# Altium footprint library 无刷驱动-CYT2BL3-FD6288-FOC-LiteDual.PcbLib: 21 footprints (part 1 of 2)
Each footprint in its own frame and in the unit in brackets; x right, y up, seen from the top. Pads: shape width x height; smd on the part's side, far side on the other; paste and mask are expansions set on the pad; w line width, h text height; cw(c..) or ccw(c..) is an arc to the next point about the centre after c.
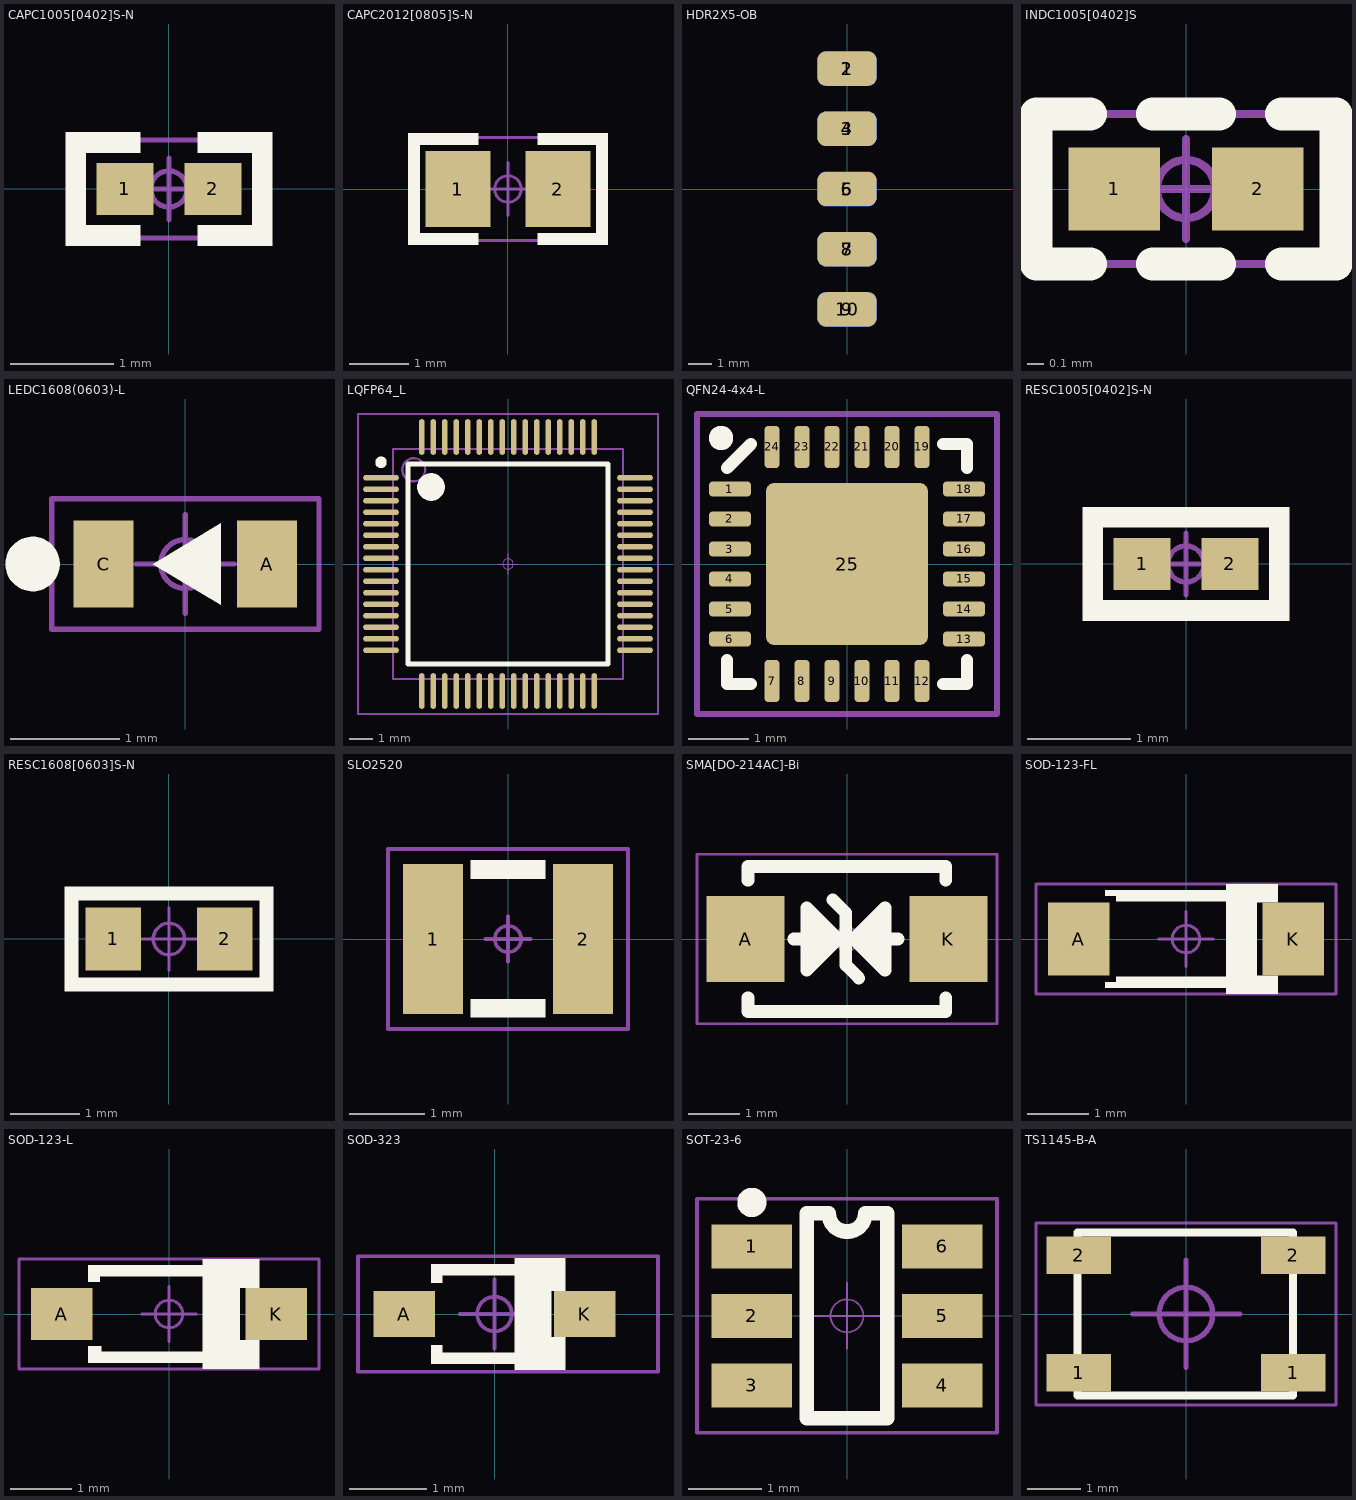
[diagram p0: the footprints below, top view; thin cyan lines are the x and y axes]

## CAPC1005[0402]S-N [mm] "0402贴片电容 有丝印 2脚 1.00x0.50mm IPC中密度"
height 0.6
pads (2):
  rect 0.55x0.5 smd: 1(-0.425,0) 2(0.425,0)
Top Overlay:
  region: 1,0.55 0.275,0.55 0.275,0.35 1,0.35
  region: 1.001,-0.55 1.001,0.55 0.801,0.55 0.801,-0.55
  region: 1,-0.35 0.275,-0.35 0.275,-0.55 1,-0.55
  rectangle: -1,-0.55 -0.275,-0.35
  region: -0.999,0.55 -0.999,-0.55 -0.799,-0.55 -0.799,0.55
  rectangle: -1,0.35 -0.275,0.55
Top Designator:
  text ".Designator" at -1.961,-0.196 h1
Top Component Outline:
  region: -0.95,-0.45 -0.95,-0.5 0.95,-0.5 0.95,-0.45
  region: 0.95,0.5 0.9,0.5 0.9,-0.5 0.95,-0.5
  region: 0.95,0.45 0.95,0.5 -0.95,0.5 -0.95,0.45
  rectangle: -0.95,-0.5 -0.9,0.5
Top Component Center:
  circle w0.05: c0,0 r0.175
  lines w0.05: -0.3,0 0.3,0 ; 0,-0.3 0,0.3
3D body "Capacitor 0402.SLDPRT": height 0.5, standoff 0, extent -0.5,-0.25 0.5,0.25

## CAPC2012[0805]S-N [mm] "0805贴片电容 有丝印 2脚 2.00x1.20mm IPC中密度"
height 1.1
pads (2):
  rect 1.1x1.3 smd: 1(-0.85,0) 2(0.85,0)
Top Overlay:
  region: 1.7,0.95 0.5,0.95 0.5,0.75 1.7,0.75
  region: 1.7,-0.95 1.7,0.95 1.5,0.95 1.5,-0.95
  region: 1.7,-0.75 0.5,-0.75 0.5,-0.95 1.7,-0.95
  rectangle: -1.7,-0.95 -0.5,-0.75
  region: -1.7,0.95 -1.7,-0.95 -1.5,-0.95 -1.5,0.95
  rectangle: -1.7,0.75 -0.5,0.95
Top Designator:
  text ".Designator" at -2.25,-0.226 h1
Top Component Outline:
  rectangle: -1.65,-0.9 -1.6,0.9
  region: 1.65,0.85 1.65,0.9 -1.65,0.9 -1.65,0.85
  region: 1.65,0.875 1.6,0.875 1.6,-0.9 1.65,-0.9
  region: -1.65,-0.85 -1.65,-0.9 1.65,-0.9 1.65,-0.85
Top Component Center:
  circle w0.05: c0,0 r0.225
  lines w0.05: -0.45,0 0.45,0 ; 0,-0.45 0,0.45
3D body "capacitor_rnd1500805b106k6r3.stp": height 1.25, standoff 0, extent -1,-0.625 1,0.625

## HDR2X5-OB [mm] "Jlink OB / DAP下载器等 横向焊接双排针"
pads (10):
  rrect50% 2.5x1.45 smd paste+0 mask+0.01: 1(0,5.08) 3(0,2.54) 5(0,0) 7(0,-2.54) 9(0,-5.08)
  rrect50% 2.5x1.45 smd far side paste+0 mask+0.01: 2(0,5.08) 4(0,2.54) 6(0,0) 8(0,-2.54) 10(0,-5.08)
Top Designator:
  text ".Designator" at -1.961,-0.196 h1

## INDC1005[0402]S [mm] "Chip Inductor, 2-Leads, Body 1.00x0.50mm, IPC Medium Density"
height 0.6
pads (2):
  rect 0.55x0.5 smd: 1(-0.43,0) 2(0.43,0)
Top Overlay:
  lines w0.2: -0.575,-0.45 -0.9,-0.45 -0.9,0.45 -0.575,0.45 ; -0.2,-0.45 0.2,-0.45 ; -0.2,0.45 0.2,0.45 ; 0.575,-0.45 0.9,-0.45 0.9,0.45 0.575,0.45
Top Designator:
  text ".Designator" at -1.961,-0.196 h1
Top Component Outline:
  lines w0.05: -0.9,-0.45 0.9,-0.45 0.9,0.45 -0.9,0.45 -0.9,-0.45
Top Component Center:
  circle w0.05: c0,0 r0.175
  lines w0.05: -0.3,0 0.3,0 ; 0,-0.3 0,0.3
3D body: height 0.49, standoff 0, extent -0.3,-0.25 0.3,0.25
3D body: height 0.5, standoff 0, extent -0.5,-0.25 -0.231,0.25
3D body: height 0.5, standoff 0, extent 0.231,-0.25 0.5,0.25

## LEDC1608(0603)-L [mm] "LED,Chip;1.60mm L X 0.80mm W X 0.80mm H"
height 0.8
pads (2):
  rect 0.55x0.8 smd: A(0.75,0) C(-0.75,0)
Top Overlay:
  circle w0.25: c-1.4,0 r0.125
  region: -0.3,0 0.325,0.375 0.325,-0.375
Top Designator:
  text ".Designator" at -2.161,-0.196 h1
Top Component Outline:
  lines w0.05: -1.225,-0.6 1.225,-0.6 1.225,0.6 -1.225,0.6 -1.225,-0.6
Top Component Center:
  circle w0.05: c0,0 r0.225
  lines w0.05: -0.45,0 0.45,0 ; 0,-0.45 0,0.45
3D body "0603 (1608) LED Base (Separate Lens).STEP": height 0.64, standoff 0, extent -0.8,-0.4 0.8,0.4
3D body: height 0.64, standoff 0, extent -0.559,-0.4 0.559,0.4

## LQFP64_L [mm] "Thin QFP, 64-Leads, Body 10x10mm, Pitch 0.5mm, IPC High Density"
height 1.6
pads (64):
  oval 1.55x0.254 smd: 1(-5.525,3.75) 2(-5.525,3.25) 3(-5.525,2.75) 4(-5.525,2.25) 5(-5.525,1.75) 6(-5.525,1.25) 7(-5.525,0.75) 8(-5.525,0.25) 9(-5.525,-0.25) 10(-5.525,-0.75) 11(-5.525,-1.25) 12(-5.525,-1.75) 13(-5.525,-2.25) 14(-5.525,-2.75) 15(-5.525,-3.25) 16(-5.525,-3.75) 33(5.525,-3.75) 34(5.525,-3.25) 35(5.525,-2.75) 36(5.525,-2.25) 37(5.525,-1.75) 38(5.525,-1.25) 39(5.525,-0.75) 40(5.525,-0.25) 41(5.525,0.25) 42(5.525,0.75) 43(5.525,1.25) 44(5.525,1.75) 45(5.525,2.25) 46(5.525,2.75) 47(5.525,3.25) 48(5.525,3.75)
  oval 0.254x1.55 smd: 17(-3.75,-5.525) 18(-3.25,-5.525) 19(-2.75,-5.525) 20(-2.25,-5.525) 21(-1.75,-5.525) 22(-1.25,-5.525) 23(-0.75,-5.525) 24(-0.25,-5.525) 25(0.25,-5.525) 26(0.75,-5.525) 27(1.25,-5.525) 28(1.75,-5.525) 29(2.25,-5.525) 30(2.75,-5.525) 31(3.25,-5.525) 32(3.75,-5.525) 49(3.75,5.525) 50(3.25,5.525) 51(2.75,5.525) 52(2.25,5.525) 53(1.75,5.525) 54(1.25,5.525) 55(0.75,5.525) 56(0.25,5.525) 57(-0.25,5.525) 58(-0.75,5.525) 59(-1.25,5.525) 60(-1.75,5.525) 61(-2.25,5.525) 62(-2.75,5.525) 63(-3.25,5.525) 64(-3.75,5.525)
Top Overlay:
  circle w0.25: c-5.525,4.425 r0.125
  circle w0.6: c-3.35,3.35 r0.3
  lines w0.2: -4.35,-4.35 -4.35,4.35 4.35,4.35 4.35,-4.35 -4.35,-4.35
Top Designator:
  text ".Designator" at -1.961,-0.196 h1
Mechanical 13:
  circle w0.1: c-4.1,4.1 r0.5
  lines w0.1: -5,-5 -5,5 5,5 5,-5 -5,-5
Top Component Outline:
  lines w0.1: -6.525,-6.525 -6.525,6.525 6.525,6.525 6.525,-6.525 -6.525,-6.525
Top Component Center:
  circle w0.05: c0,0 r0.225
  lines w0.05: -0.45,0 0.45,0 ; 0,-0.45 0,0.45
3D body "User Library-LQFP64_Grid_0_5.STEP": height 1.6, standoff 0, extent -6,-6 6,6

## QFN24-4x4-L [mm]
height 1.1
pads (25):
  rrect50% 0.7x0.25 smd mask+0.05: 1(-1.95,1.25) 2(-1.95,0.75) 3(-1.95,0.25) 4(-1.95,-0.25) 5(-1.95,-0.75) 6(-1.95,-1.25) 13(1.95,-1.25) 14(1.95,-0.75) 15(1.95,-0.25) 16(1.95,0.25) 17(1.95,0.75) 18(1.95,1.25)
  rrect50% 0.25x0.7 smd mask+0.05: 7(-1.25,-1.95) 8(-0.75,-1.95) 9(-0.25,-1.95) 10(0.25,-1.95) 11(0.75,-1.95) 12(1.25,-1.95) 19(1.25,1.95) 20(0.75,1.95) 21(0.25,1.95) 22(-0.25,1.95) 23(-0.75,1.95) 24(-1.25,1.95)
  rrect10% 2.7x2.7 smd mask+0.05: 25(0,0)
Top Overlay:
  circle w0.203: c-2.1,2.1 r0.102
  lines w0.2: -2,-1.6 -2,-2 -1.6,-2 ; -2,1.6 -1.6,2 ; 1.6,-2 2,-2 2,-1.6 ; 1.6,2 2,2 2,1.6
Top Designator:
  text ".Designator" at -2.25,-0.226 h1
Top Component Outline:
  lines w0.1: -2.5,-2.5 2.5,-2.5 2.5,2.5 -2.5,2.5 -2.5,-2.5
Top Component Center:
  circle w0.05: c0,0 r0.225
  lines w0.05: -0.45,0 0.45,0 ; 0,-0.45 0,0.45
3D body "User Library-QFN 24 4x4.step": height 0.9, standoff 0, extent -2.002,-2.002 2.002,2.002

## RESC1005[0402]S-N [mm] "0402贴片电阻 有丝印 2脚 1.00x0.50mm IPC中密度"
height 0.6
pads (2):
  rect 0.55x0.5 smd: 1(-0.425,0) 2(0.425,0)
Top Overlay:
  rectangle: -1,0.351 1,0.551
  region: -1,0.549 -1,-0.551 -0.8,-0.551 -0.8,0.549
  rectangle: -1,-0.549 1,-0.349
  region: 1,-0.551 1,0.549 0.8,0.549 0.8,-0.551
Top Designator:
  text ".Designator" at -2.25,-0.226 h1
Top Component Outline:
  region: -0.95,-0.45 -0.95,-0.5 0.95,-0.5 0.95,-0.45
  region: 0.95,0.5 0.9,0.5 0.9,-0.5 0.95,-0.5
  region: 0.95,0.45 0.95,0.5 -0.95,0.5 -0.95,0.45
  rectangle: -0.95,-0.5 -0.9,0.5
Top Component Center:
  circle w0.05: c0,0 r0.175
  lines w0.05: -0.3,0 0.3,0 ; 0,-0.3 0,0.3
3D body "R0402.STEP": height 0.35, standoff 0, extent -0.5,-0.25 0.5,0.25

## RESC1608[0603]S-N [mm] "0603贴片电阻 有丝印 2脚 1.60x0.80mm IPC中密度"
height 0.6
pads (2):
  rect 0.8x0.9 smd: 1(-0.8,0) 2(0.8,0)
Top Overlay:
  region: 1.5,-0.75 1.5,0.75 1.3,0.75 1.3,-0.75
  region: -1.5,0.75 -1.5,-0.75 -1.3,-0.75 -1.3,0.75
  rectangle: -1.5,0.55 1.5,0.75
  rectangle: -1.5,-0.75 1.5,-0.55
Top Designator:
  text ".Designator" at -1.961,-0.196 h1
Top Component Outline:
  rectangle: -1.45,-0.7 -1.4,0.7
  region: 1.45,0.65 1.45,0.7 -1.45,0.7 -1.45,0.65
  region: 1.45,0.7 1.4,0.7 1.4,-0.7 1.45,-0.7
  region: -1.45,-0.65 -1.45,-0.7 1.45,-0.7 1.45,-0.65
Top Component Center:
  circle w0.05: c0,0 r0.225
  lines w0.05: -0.45,0 0.45,0 ; 0,-0.45 0,0.45
3D body "R0603.STEP": height 0.45, standoff 0, extent -0.8,-0.4 0.8,0.4

## SLO2520 [mm]
height 1.6
pads (2):
  rect 0.8x2 smd: 1(-1,0) 2(1,0)
Top Overlay:
  region: 0.5,-0.8 -0.5,-0.8 -0.5,-1.05 0.5,-1.05
  rectangle: -0.5,0.8 0.5,1.05
Top Designator:
  text ".Designator" at -1.961,-0.196 h1
Top Component Outline:
  lines w0.05: -1.6,-1.2 -1.6,1.2 1.6,1.2 1.6,-1.2 -1.6,-1.2
Top Component Center:
  circle w0.05: c0,0 r0.175
  lines w0.05: -0.3,0 0.3,0 ; 0,-0.3 0,0.3
3D body: height 1.1, standoff 0, extent -1.25,-0.875 -1,0.875
3D body: height 1.1, standoff 0, extent 1,-0.875 1.25,0.875
3D body: height 1.2, standoff 0, extent -1.2,-1 1.2,1

## SMA[DO-214AC]-Bi [mm]
pads (2):
  rect 1.52x1.68 smd: A(-1.972,0) K(1.973,0)
Top Overlay:
  region: -0.022,0 0.74,-0.61 0.74,0.61
  region: -0.022,0 -0.784,0.61 -0.784,-0.61
  lines w0.245: -1.927,-1.143 -1.927,-1.412 1.927,-1.412 1.927,-1.143 ; -1.927,1.143 -1.927,1.412 1.927,1.412 1.927,1.143 ; -1.038,0 -0.53,0 ; -0.276,0.762 -0.022,0.508 -0.022,-0.508 0.232,-0.762 ; -0.099,0 -0.175,0 ; 0.359,0 0.994,0 ; -0.175,0 -0.784,-0.61 -0.784,0.61 -0.175,0 ; 0.13,0 0.74,-0.61 0.74,0.61 0.13,0
Top Designator:
  text ".Designator" at -1.961,-0.209 h1
Top Component Outline:
  lines w0.05: -2.921,-1.651 -2.921,1.651 2.921,1.651 2.921,-1.651 -2.921,-1.651
Top Component Center:
  circle w0.05: c0,0 r0.225
  lines w0.05: -0.45,0 0.45,0 ; 0,-0.45 0,0.45
3D body "SMA.STEP": height 2.1, standoff 0, extent -2.6,-1.25 2.6,1.25

## SOD-123-FL [mm] "SOD Diode;2.70mm W X 1.60mm L X 1.35mm H body"
height 1.35
pads (2):
  rect 1x1.2 smd: A(-1.75,0) K(1.75,0)
Top Overlay:
  rectangle: 0.65,-0.8 1.16,0.8
  rectangle: 0.65,-0.9 1.15,-0.697
  rectangle: -1.143,0.612 0.7,0.8
  rectangle: 0.65,0.697 1.15,0.9
  rectangle: -1.143,-0.8 0.8,-0.612
  rectangle: 0.825,0.6 1.5,0.9
  rectangle: 0.8,-0.9 1.5,-0.6
  region: -1.1,-0.7 -1.325,-0.7 -1.325,-0.8 -1.1,-0.8
  region: -1.125,0.8 -1.325,0.8 -1.325,0.7 -1.125,0.7
Top Designator:
  text ".Designator" at -1.961,-0.196 h1
Top Component Outline:
  lines w0.05: -2.45,-0.9 2.45,-0.9 2.45,0.9 -2.45,0.9 -2.45,-0.9
Top Component Center:
  circle w0.05: c0,0 r0.225
  lines w0.05: -0.45,0 0.45,0 ; 0,-0.45 0,0.45
3D body "SOD-123.STEP": height 1.2, standoff 0, extent -1.85,-0.8 1.85,0.8

## SOD-123-L [mm] "SOD Diode;2.70mm W X 1.60mm L X 1.35mm H body"
height 1.35
pads (2):
  rect 1x0.85 smd: A(-1.75,0) K(1.75,0)
Top Overlay:
  region: -1.125,0.8 -1.325,0.8 -1.325,0.525 -1.125,0.525
  region: -1.1,-0.525 -1.325,-0.525 -1.325,-0.8 -1.1,-0.8
  rectangle: 1.15,-0.8 1.475,-0.425
  rectangle: 1.15,0.425 1.475,0.8
  rectangle: -1.143,-0.8 0.584,-0.612
  rectangle: 0.55,0.697 1.475,0.9
  rectangle: -1.143,0.612 0.584,0.8
  rectangle: 0.55,-0.9 1.475,-0.697
  rectangle: 0.55,-0.8 1.159,0.8
Top Designator:
  text ".Designator" at -2.25,-0.226 h1
Top Component Outline:
  lines w0.05: -2.45,-0.9 2.45,-0.9 2.45,0.9 -2.45,0.9 -2.45,-0.9
Top Component Center:
  circle w0.05: c0,0 r0.225
  lines w0.05: -0.45,0 0.45,0 ; 0,-0.45 0,0.45
3D body "SOD-123.STEP": height 1.2, standoff 0, extent -1.85,-0.8 1.85,0.8

## SOD-323 [mm] "SOD Diode;1.65mm W X 1.24mm L X 1.16mm H body"
height 1.16
pads (2):
  rect 0.8x0.6 smd: A(-1.175,0) K(1.175,0)
Top Overlay:
  rectangle: -0.825,-0.65 -0.675,-0.4
  rectangle: -0.825,-0.65 0.65,-0.5
  rectangle: -0.825,0.4 -0.675,0.65
  rectangle: -0.825,0.5 0.65,0.65
  rectangle: 0.258,-0.725 0.74,0.725
  rectangle: 0.575,0.3 0.925,0.725
  rectangle: 0.575,-0.725 0.925,-0.3
Top Designator:
  text ".Designator" at -1.786,-0.196 h1
Top Component Outline:
  lines w0.05: -1.775,-0.75 2.125,-0.75 2.125,0.75 -1.775,0.75 -1.775,-0.75
Top Component Center:
  circle w0.05: c0,0 r0.225
  lines w0.05: -0.45,0 0.45,0 ; 0,-0.45 0,0.45
3D body "SOD-323.STEP": height 1, standoff 0, extent -1.3,-0.65 1.3,0.65

## SOT-23-6 [mm] "SOT23, 6-Leads, Body 2.90x2.80mm, Pitch 0.95mm, IPC Medium Density"
height 1.45
pads (6):
  rect 1.1x0.6 smd: 1(-1.3,0.95) 2(-1.3,0) 3(-1.3,-0.95) 4(1.3,-0.95) 5(1.3,0) 6(1.3,0.95)
Top Overlay:
  circle w0.25: c-1.3,1.55 r0.075
  lines w0.2: -0.25,1.4 -0.55,1.4 -0.55,-1.4 0.55,-1.4 0.55,1.4 0.25,1.4
  lines w0.203: -0.25,1.4 ccw(c0,1.4) 0.25,1.4
Top Designator:
  text ".Designator" at -1.961,-0.134 h1
Top Component Outline:
  lines w0.05: -2.05,-1.6 -2.05,1.6 2.05,1.6 2.05,-1.6 -2.05,-1.6
Top Component Center:
  circle w0.025: c0,0 r0.225
  lines w0.025: -0.45,0 0.45,0 ; 0,-0.45 0,0.45
3D body "SOT23-6.STEP": height 1.55, standoff 0, extent -1.504,-1.5 1.504,1.5

## TS1145-B-A [mm] "3x4x2.5 4脚贴片按键 包脚 160gf"
height 4.32
pads (4):
  rect 1.2x0.7 smd: 1(-2,-1.1) 1(2,-1.1) 2(-2,1.1) 2(2,1.1)
Top Overlay:
  lines w0.152: -2.025,-1.524 -2.025,1.524 2,1.524 2,-1.524 -2.025,-1.524
Top Designator:
  text ".Designator" at -1.961,-0.196 h1
Top Component Outline:
  lines w0.05: -2.8,-1.7 2.8,-1.7 2.8,1.7 -2.8,1.7 -2.8,-1.7
Top Component Center:
  circle w0.1: c0,0 r0.5
  lines w0.1: -1,0 1,0 ; 0,-1 0,1
3D body "User Library-PTS810.STEP": height 2.5, standoff 0, extent -2.301,-1.6 2.299,1.6